# EAGLE library part PIN_HEADER_1X16 (library sapphire)
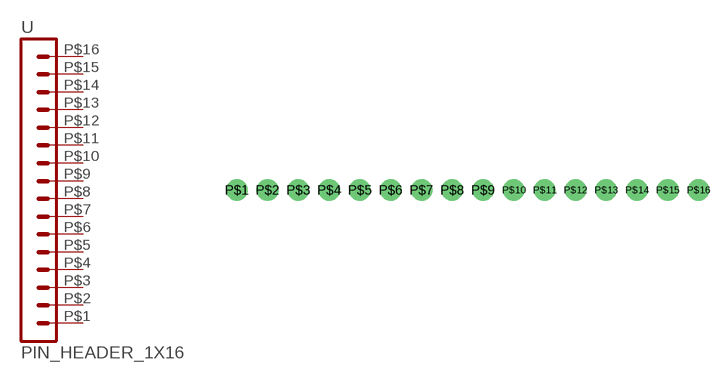
[diagram p17: symbol with the pads of PIN_HEADER_1X16; footprint PIN_HEADER_1X16]

Designator prefix -

## PIN_HEADER_1X16  [PIN_HEADER_1X16]
P$1  1  pas
P$2  2  pas
P$3  3  pas
P$4  4  pas
P$5  5  pas
P$6  6  pas
P$7  7  pas
P$8  8  pas
P$9  9  pas
P$10  10  pas
P$11  11  pas
P$12  12  pas
P$13  13  pas
P$14  14  pas
P$15  15  pas
P$16  16  pas

## Footprint PIN_HEADER_1X16 (pad centres in mm)
drill 1.016 pad 1.778: P$1 -19.05,0; P$2 -16.51,0; P$3 -13.97,0; P$4 -11.43,0; P$5 -8.89,0; P$6 -6.35,0; P$7 -3.81,0; P$8 -1.27,0; P$9 1.27,0; P$10 3.81,0; P$11 6.35,0; P$12 8.89,0; P$13 11.43,0; P$14 13.97,0; P$15 16.51,0; P$16 19.05,0